# Altium footprint library MSOP-8_INV_Double.PcbLib: 1 footprints
Each footprint in its own frame and in the unit in brackets; x right, y up, seen from the top. Pads: shape width x height; smd on the part's side, far side on the other; paste and mask are expansions set on the pad; w line width, h text height; cw(c..) or ccw(c..) is an arc to the next point about the centre after c.
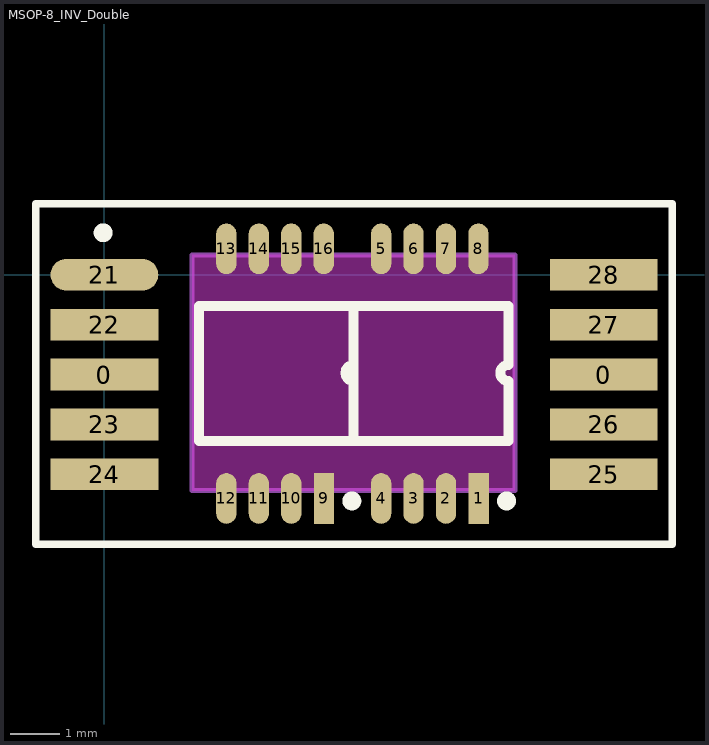
[diagram p0: the footprint, top view; thin cyan lines are the x and y axes]

## MSOP-8_INV_Double [mil]
pads (26):
  rect 85x25 smd: 0(0,-78.74) 0(393.8,-78.74) 22(0,-39.37) 23(0,-118.11) 24(0,-157.48) 25(393.8,-157.48) 26(393.8,-118.11) 27(393.8,-39.37) 28(393.8,0)
  rect 16x40 smd: 1(295.18,-176.43) 9(173.14,-176.43)
  oval 16x40 smd: 2(269.42,-176.43) 3(243.82,-176.43) 4(218.23,-176.43) 5(218.23,20.48) 6(243.82,20.48) 7(269.42,20.48) 8(295.01,20.48) 10(147.37,-176.43) 11(121.78,-176.43) 12(96.19,-176.43) 13(96.19,20.48) 14(121.78,20.48) 15(147.37,20.48) 16(172.96,20.48)
  oval 85x25 smd: 21(0,0)
Top Overlay:
  circle w10: c317.18,-178.43 r2.44
  circle w10: c195.14,-178.43 r2.44
  circle w10: c-1.02,33.12 r2.44
  lines w6: -54.13,-212.58 447.83,-212.58 447.83,56 -54.13,56 -54.13,-212.58
  lines w7.87: 196.58,-84.37 196.58,-131.12 ; 196.58,-83.88 cw(c196.58,-77.48) 196.58,-71.08 196.58,-24.82 ; 318.63,-84.37 318.63,-131.12 196.58,-131.12 ; 318.63,-83.88 cw(c318.63,-77.48) 318.63,-71.08 318.63,-24.82 196.58,-24.82 ; 196.58,-131.12 196.58,-24.82 ; 196.58,-131.12 74.53,-131.12 74.53,-24.82 196.58,-24.82
Keep-Out Layer:
  board cut-out: 69.39,15.75 323.82,15.75 323.82,-170.28 69.39,-170.28
Mechanical 1:
  lines w3.94: 68.9,-170.28 323.82,-170.28 323.82,15.75 68.9,15.75 68.9,-170.28
3D body "N02.8-1B.STEP": height 114.17, standoff 0, extent 29.37,-206.69 364.02,49.21
3D body "MSOP-8.STEP": height 6.91, standoff -35.4, extent 75.52,-176.81 193.63,20.86
3D body "MSOP-8.STEP": height 6.91, standoff -35.4, extent 197.57,-176.81 315.68,20.86